# EAGLE library part MKL25Z128VLH4 (library Microcontroller)
IC MCU 32BIT 128KB FLASH 64LQFP Manufacturer's datasheet <http://cache.freescale.com/files/32bit/doc/data_sheet/KL25P80M48SF0.pdf>
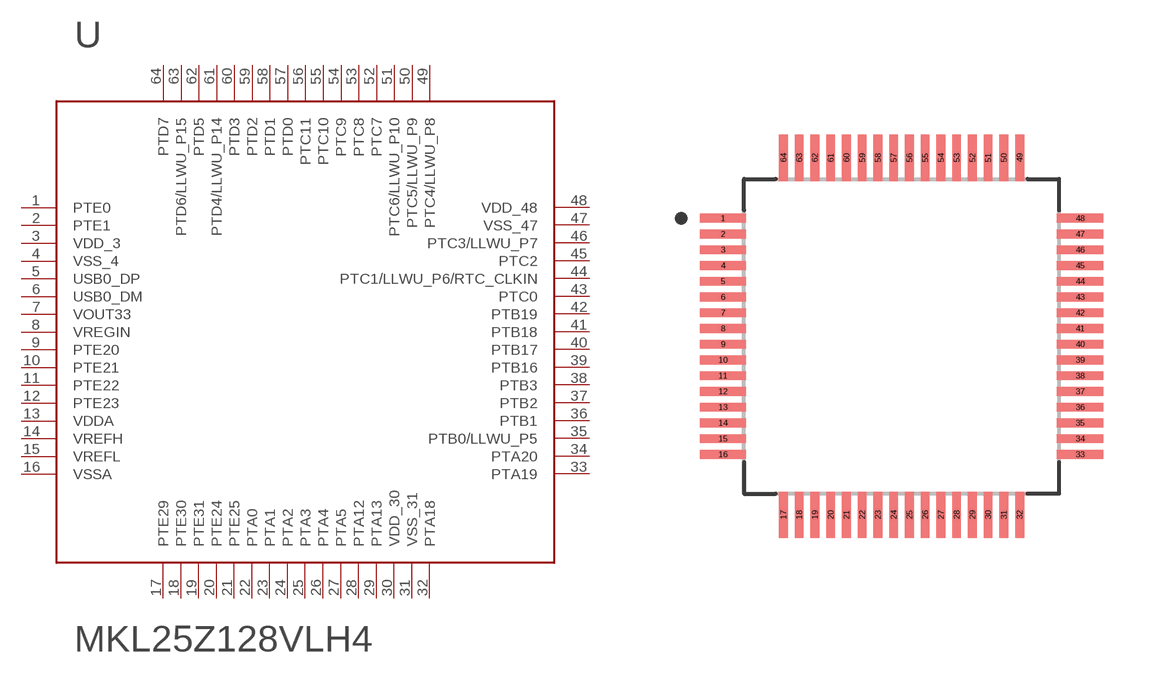
[diagram p27: symbol with the pads of LQFP-64; footprint LQFP-64]

Designator prefix U

## MKL25Z128VLH4 (CREATED_BY: PCBLayout.com; DIGIKEY_PART_NUMBER: MKL25Z128VLH4-ND; MANUFACTURER: NXP USA Inc.; MPN: MKL25Z128VLH4; PACKAGE: LQFP-64)  [LQFP-64]
1  PTE0
2  PTE1
3  VDD_3
4  VSS_4
5  USB0_DP
6  USB0_DM
7  VOUT33
8  VREGIN
9  PTE20
10  PTE21
11  PTE22
12  PTE23
13  VDDA
14  VREFH
15  VREFL
16  VSSA
17  PTE29
18  PTE30
19  PTE31
20  PTE24
21  PTE25
22  PTA0
23  PTA1
24  PTA2
25  PTA3
26  PTA4
27  PTA5
28  PTA12
29  PTA13
30  VDD_30
31  VSS_31
32  PTA18
33  PTA19
34  PTA20
35  PTB0/LLWU_P5
36  PTB1
37  PTB2
38  PTB3
39  PTB16
40  PTB17
41  PTB18
42  PTB19
43  PTC0
44  PTC1/LLWU_P6/RTC_CLKIN
45  PTC2
46  PTC3/LLWU_P7
47  VSS_47
48  VDD_48
49  PTC4/LLWU_P8
50  PTC5/LLWU_P9
51  PTC6/LLWU_P10
52  PTC7
53  PTC8
54  PTC9
55  PTC10
56  PTC11
57  PTD0
58  PTD1
59  PTD2
60  PTD3
61  PTD4/LLWU_P14
62  PTD5
63  PTD6/LLWU_P15
64  PTD7

## Footprint LQFP-64 (pad centres in mm)
smd 1.47 x 0.28: 1 -5.67,3.75; 2 -5.67,3.25; 3 -5.67,2.75; 4 -5.67,2.25; 5 -5.67,1.75; 6 -5.67,1.25; 7 -5.67,0.75; 8 -5.67,0.25; 9 -5.67,-0.25; 10 -5.67,-0.75; 11 -5.67,-1.25; 12 -5.67,-1.75; 13 -5.67,-2.25; 14 -5.67,-2.75; 15 -5.67,-3.25; 16 -5.67,-3.75; 33 5.67,-3.75; 34 5.67,-3.25; 35 5.67,-2.75; 36 5.67,-2.25; 37 5.67,-1.75; 38 5.67,-1.25; 39 5.67,-0.75; 40 5.67,-0.25; 41 5.67,0.25; 42 5.67,0.75; 43 5.67,1.25; 44 5.67,1.75; 45 5.67,2.25; 46 5.67,2.75; 47 5.67,3.25; 48 5.67,3.75
smd 0.28 x 1.47: 17 -3.75,-5.67; 18 -3.25,-5.67; 19 -2.75,-5.67; 20 -2.25,-5.67; 21 -1.75,-5.67; 22 -1.25,-5.67; 23 -0.75,-5.67; 24 -0.25,-5.67; 25 0.25,-5.67; 26 0.75,-5.67; 27 1.25,-5.67; 28 1.75,-5.67; 29 2.25,-5.67; 30 2.75,-5.67; 31 3.25,-5.67; 32 3.75,-5.67; 49 3.75,5.67; 50 3.25,5.67; 51 2.75,5.67; 52 2.25,5.67; 53 1.75,5.67; 54 1.25,5.67; 55 0.75,5.67; 56 0.25,5.67; 57 -0.25,5.67; 58 -0.75,5.67; 59 -1.25,5.67; 60 -1.75,5.67; 61 -2.25,5.67; 62 -2.75,5.67; 63 -3.25,5.67; 64 -3.75,5.67